# EAGLE library part SENS_MAG_LIS3MDL (library SNWCT_EAGLE_LBR)
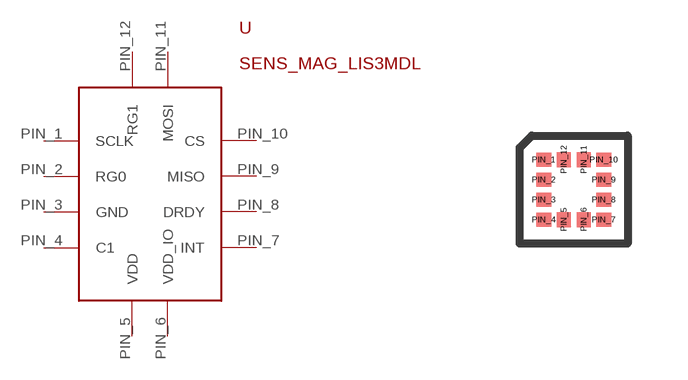
[diagram p1: symbol with the pads of LGA-12; footprint LGA-12]

Designator prefix -

## SENS_MAG_LIS3MDL  [LGA-12]
PIN_1  SCLK
PIN_2  RG0
PIN_3  GND
PIN_4  C1
PIN_5  VDD
PIN_6  VDD_IO
PIN_7  INT
PIN_8  DRDY
PIN_9  MISO
PIN_10  CS
PIN_11  MOSI
PIN_12  RG1

## Footprint LGA-12 (pad centres in mm)
smd 0.375 x 0.35: PIN_1 0,0; PIN_2 0,-0.5; PIN_3 0,-1; PIN_4 0,-1.5; PIN_7 1.5,-1.5; PIN_8 1.5,-1; PIN_9 1.5,-0.5; PIN_10 1.5,0
smd 0.35 x 0.375: PIN_5 0.5,-1.5; PIN_6 1,-1.5; PIN_11 1,0; PIN_12 0.5,0